# EAGLE library part ADS1015 (library pimoroni)
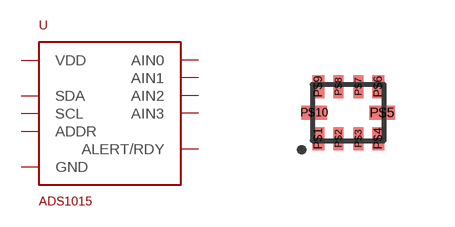
[diagram p32: symbol with the pads of UQFN10; footprint UQFN10]

Designator prefix -

## ADS1015  [UQFN10]
P$1  ADDR
P$2  ALERT/RDY
P$3  GND
P$4  AIN0
P$5  AIN1
P$6  AIN2
P$7  AIN3
P$8  VDD
P$9  SDA
P$10  SCL

## Footprint UQFN10 (pad centres in mm)
smd 0.3 x 0.58: P$1 -0.785,-0.685; P$4 0.715,-0.685; P$6 0.715,0.615; P$9 -0.785,0.615
smd 0.25 x 0.58: P$2 -0.285,-0.685; P$3 0.215,-0.685; P$7 0.215,0.615; P$8 -0.285,0.615
smd 0.63 x 0.35: P$5 0.815,-0.035; P$10 -0.885,-0.035